# EAGLE library part RAC164 (library 2020-03-18-Lib)
Four independent resistors integrated in a single SMD package
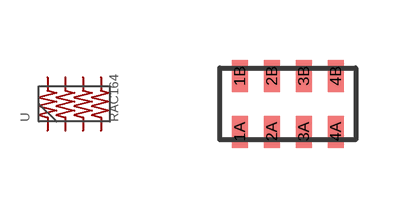
[diagram p3: symbol with the pads of RAC1206; footprint RAC1206]

Designator prefix -

## RAC164  [RAC1206]
1A  1A
1B  1B
2A  2A
2B  2B
3A  3A
3B  3B
4A  4A
4B  4B

## Footprint RAC1206 (pad centres in mm)
RAC164 This is a 4X resistor network. The external dimension is a package 1206 3.2mm*1.6mm pad are 0.7mmx0.4mm. pitch is 0.8mm 2019-10-09: increased pad 100um
smd 0.4 x 0.8: 1A -1.2,-0.7; 1B -1.2,0.7; 2A -0.4,-0.7; 2B -0.4,0.7; 3A 0.4,-0.7; 3B 0.4,0.7; 4A 1.2,-0.7; 4B 1.2,0.7